# EAGLE library part ATTINY (library Ai_IC)
Atmel's 8-pin 2/4/8kB flash family of microcontrollers
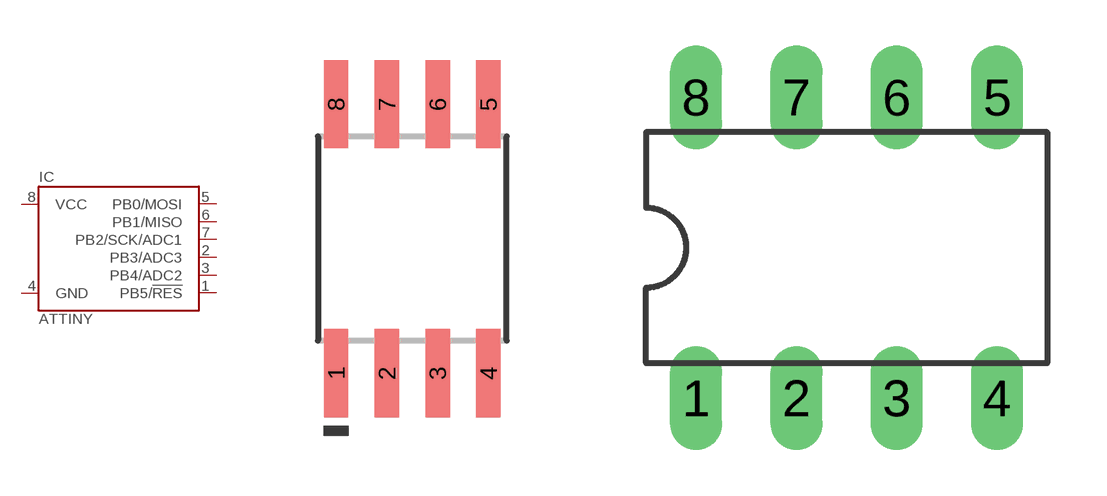
[diagram p13: symbol with the pads of SO08-EIAJ; footprints SO08-EIAJ, DIL08]

Designator prefix IC

## ATTINY85-SMT  [SO08-EIAJ]
1  PB5/!RES
2  PB3/ADC3
3  PB4/ADC2
4  GND
5  PB0/MOSI
6  PB1/MISO
7  PB2/SCK/ADC1
8  VCC

## ATTINY85-DIP  [DIL08]
Pads as for SO08-EIAJ

## Footprint SO08-EIAJ (pad centres in mm)
smd 0.61 x 2.21: 1 -1.905,-3.378; 2 -0.635,-3.378; 3 0.635,-3.378; 4 1.905,-3.378; 5 1.905,3.353; 6 0.635,3.353; 7 -0.635,3.353; 8 -1.905,3.353

## Footprint DIL08 (pad centres in mm)
Dual In Line Package
drill 0.813 pad 1.27 long: 1 -3.81,-3.81; 2 -1.27,-3.81; 3 1.27,-3.81; 4 3.81,-3.81; 5 3.81,3.81; 6 1.27,3.81; 7 -1.27,3.81; 8 -3.81,3.81